# Altium footprint library MA-505 16.PcbLib: 1 footprints
Each footprint in its own frame and in the unit in brackets; x right, y up, seen from the top. Pads: shape width x height; smd on the part's side, far side on the other; paste and mask are expansions set on the pad; w line width, h text height; cw(c..) or ccw(c..) is an arc to the next point about the centre after c.
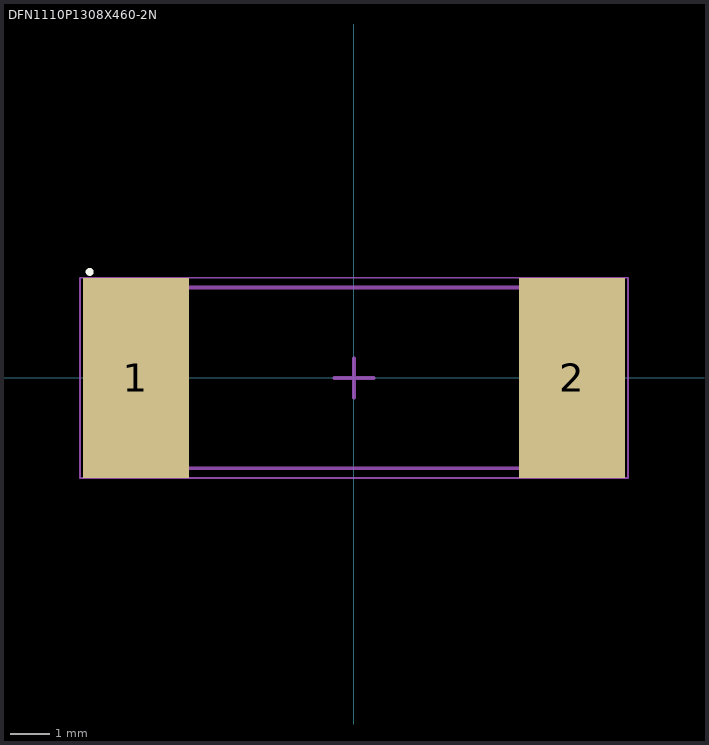
[diagram p0: the footprint, top view; thin cyan lines are the x and y axes]

## DFN1110P1308X460-2N [mm] "DFN, 2-Leads, Body 4.40x13.08mm, Pitch 11.10mm, IPC Medium Density"
height 4.6
pads (2):
  rect 2.7x5.1 smd: 1(-5.55,0) 2(5.55,0)
Top Overlay:
  circle w0.1: c-6.73,2.7 r0.05
Mechanical 13:
  lines w0.1: -6.73,-2.3 -6.73,2.3 6.73,2.3 6.73,-2.3 -6.73,-2.3
Mechanical 15:
  lines w0.05: -6.98,-2.55 -6.98,2.55 6.98,2.55 6.98,-2.55 -6.98,-2.55
  lines w0.1: -0.5,0 0.5,0 ; 0,-0.5 0,0.5
3D body: height 4.6, standoff 0.2, extent -6.73,-2.3 6.73,2.3